# EAGLE library part HEADER_SMD_10P05_BARE (library SSv3_1)
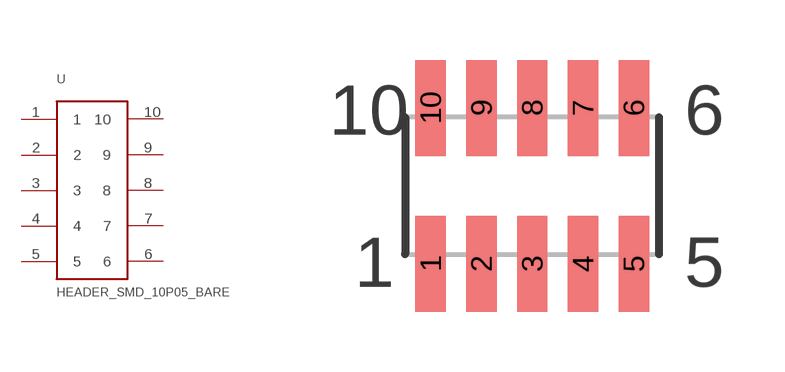
[diagram p3: symbol with the pads of SMD_HEADER_10P05_BARE; footprint SMD_HEADER_10P05_BARE]

Designator prefix -

## HEADER_SMD_10P05_BARE  [SMD_HEADER_10P05_BARE]
1  1
2  2
3  3
4  4
5  5
6  6
7  7
8  8
9  9
10  10

## Footprint SMD_HEADER_10P05_BARE (pad centres in mm)
smd 0.76 x 2.4: 1 -2.54,-1.95; 2 -1.27,-1.95; 3 0,-1.95; 4 1.27,-1.95; 5 2.54,-1.95; 6 2.54,1.95; 7 1.27,1.95; 8 0,1.95; 9 -1.27,1.95; 10 -2.54,1.95